# EAGLE library part LDD-E2802RD (library magzor)
Lumex LDD-E2802RD 0.28" Dual Digit Disp 565nm Green Chips don't forget to set the >LABEL attribute
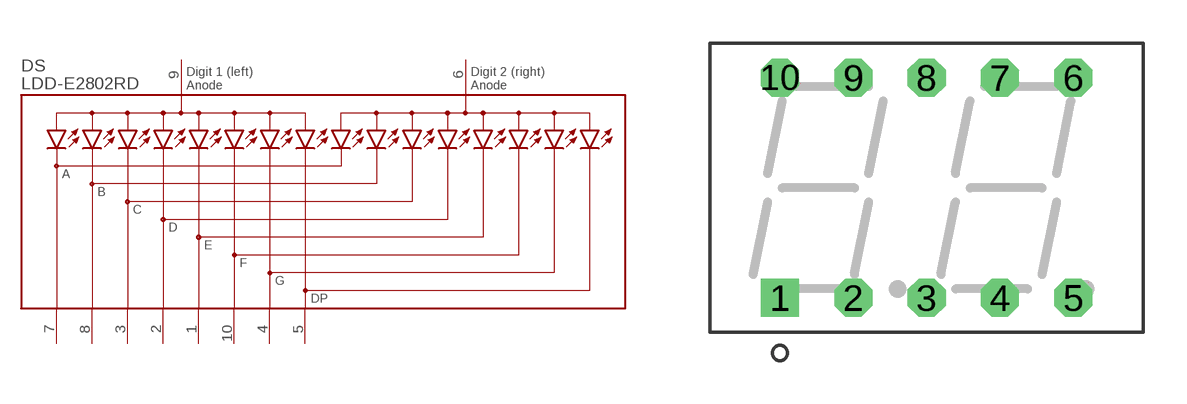
[diagram p32: symbol with the pads of LDD-E2802RD; footprint LDD-E2802RD]

Designator prefix DS

## LDD-E2802RD  [LDD-E2802RD]
1  E  pas
2  D  pas
3  C  pas
4  G  pas
5  DP  pas
6  ANODE2  pas
7  A  pas
8  B  pas
9  ANODE1  pas
10  F  pas

## Footprint LDD-E2802RD (pad centres in mm)
Lumex LDD-E2802RD 0.28" Dual Digit Disp 565nm Green Chips >LABEL is actually on tValues
drill 0.813 square: 1 -5.08,-3.81
drill 0.813 octagon: 2 -2.54,-3.81; 3 0,-3.81; 4 2.54,-3.81; 5 5.08,-3.81; 6 5.08,3.81; 7 2.54,3.81; 8 0,3.81; 9 -2.54,3.81; 10 -5.08,3.81